# Altium schematic symbol library 691 244 700 0xx.SchLib: 7 symbols
Pins are listed as number, name and electrical type; pins without a type are passive.

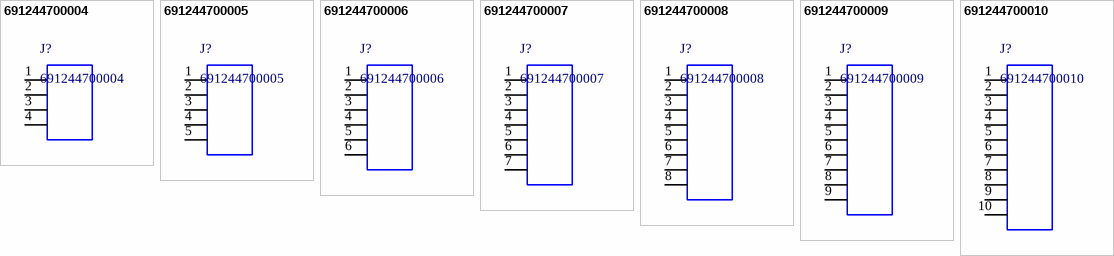
[diagram p0: symbols 691244700004 to 691244700010]

## 691244700004
designator J?
WR-TBL Vertical Cable Entry With Rising Cage Clamp,Serie 2447 - 5.00 mm; Manufacturer: Wurth Elektronik; ComponentLink1 Description: Manufacturer; ComponentLink2 Description: Datasheet; ComponentLink1URL: http://www.we-online.de; ComponentLink2URL: http://katalog.we-online.de/em/datasheet/6912447000XX.pdf; Created by: Baojun Chen; Created Date: 15.Sep.2015; partNo: 691244700004
footprint 691244700004 (Serie 2447 - 5.00 mm _ 4 pins)
pins: 1, 2, 3, 4

## 691244700005
designator J?
WR-TBL Vertical Cable Entry With Rising Cage Clamp,Serie 2447 - 5.00 mm; Manufacturer: Wurth Elektronik; ComponentLink1 Description: Manufacturer; ComponentLink2 Description: Datasheet; ComponentLink1URL: http://www.we-online.de; ComponentLink2URL: http://katalog.we-online.de/em/datasheet/6912447000XX.pdf; Created by: Baojun Chen; Created Date: 15.Sep.2015; partNo: 691244700005
footprint 691244700005 (Serie 2447 - 5.00 mm _ 5 pins)
pins: 1, 2, 3, 4, 5

## 691244700006
designator J?
WR-TBL Vertical Cable Entry With Rising Cage Clamp,Serie 2447 - 5.00 mm; Manufacturer: Wurth Elektronik; ComponentLink1 Description: Manufacturer; ComponentLink2 Description: Datasheet; ComponentLink1URL: http://www.we-online.de; ComponentLink2URL: http://katalog.we-online.de/em/datasheet/6912447000XX.pdf; Created by: Baojun Chen; Created Date: 15.Sep.2015; partNo: 691244700006
footprint 691244700006 (Serie 2447 - 5.00 mm _ 6 pins)
pins: 1, 2, 3, 4, 5, 6

## 691244700007
designator J?
WR-TBL Vertical Cable Entry With Rising Cage Clamp,Serie 2447 - 5.00 mm; Manufacturer: Wurth Elektronik; ComponentLink1 Description: Manufacturer; ComponentLink2 Description: Datasheet; ComponentLink1URL: http://www.we-online.de; ComponentLink2URL: http://katalog.we-online.de/em/datasheet/6912447000XX.pdf; Created by: Baojun Chen; Created Date: 15.Sep.2015; partNo: 691244700007
footprint 691244700007 (Serie 2447 - 5.00 mm _ 7 pins)
pins: 1, 2, 3, 4, 5, 6, 7

## 691244700008
designator J?
WR-TBL Vertical Cable Entry With Rising Cage Clamp,Serie 2447 - 5.00 mm; Manufacturer: Wurth Elektronik; ComponentLink1 Description: Manufacturer; ComponentLink2 Description: Datasheet; ComponentLink1URL: http://www.we-online.de; ComponentLink2URL: http://katalog.we-online.de/em/datasheet/6912447000XX.pdf; Created by: Baojun Chen; Created Date: 15.Sep.2015; partNo: 691244700008
footprint 691244700008 (Serie 2447 - 5.00 mm _ 8 pins)
pins: 1, 2, 3, 4, 5, 6, 7, 8

## 691244700009
designator J?
WR-TBL Vertical Cable Entry With Rising Cage Clamp,Serie 2447 - 5.00 mm; Manufacturer: Wurth Elektronik; ComponentLink1 Description: Manufacturer; ComponentLink2 Description: Datasheet; ComponentLink1URL: http://www.we-online.de; ComponentLink2URL: http://katalog.we-online.de/em/datasheet/6912447000XX.pdf; Created by: Baojun Chen; Created Date: 15.Sep.2015; partNo: 691244700009
footprint 691244700009 (Serie 2447 - 5.00 mm _ 9 pins)
pins: 1, 2, 3, 4, 5, 6, 7, 8, 9

## 691244700010
designator J?
WR-TBL Vertical Cable Entry With Rising Cage Clamp,Serie 2447 - 5.00 mm; Manufacturer: Wurth Elektronik; ComponentLink1 Description: Manufacturer; ComponentLink2 Description: Datasheet; ComponentLink1URL: http://www.we-online.de; ComponentLink2URL: http://katalog.we-online.de/em/datasheet/6912447000XX.pdf; Created by: Baojun Chen; Created Date: 15.Sep.2015; partNo: 691244700010
footprint 691244700010 (Serie 2447 - 5.00 mm _ 10 pins)
pins: 1, 2, 3, 4, 5, 6, 7, 8, 9, 10